# Altium footprint library HC49US-10P244MHZ-16PF-30-EXT-SMD-H32-TR.PcbLib: 3 footprints
Each footprint in its own frame and in the unit in brackets; x right, y up, seen from the top. Pads: shape width x height; smd on the part's side, far side on the other; paste and mask are expansions set on the pad; w line width, h text height; cw(c..) or ccw(c..) is an arc to the next point about the centre after c.
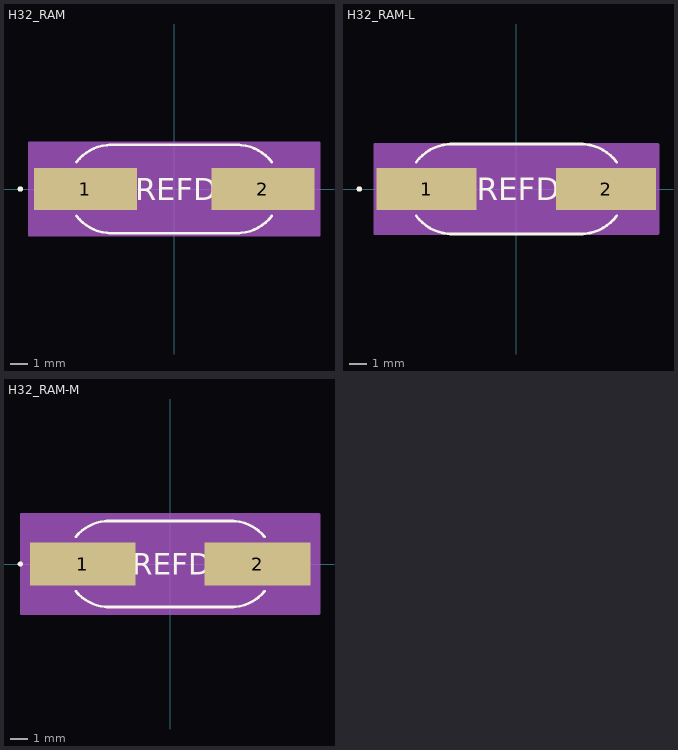
[diagram p0: the footprints below, top view; thin cyan lines are the x and y axes]

## H32_RAM [mm]
pads (2):
  rect 5.912x2.432 smd paste+0 mask+0: 1(-5.088,0) 2(5.088,0)
Top Overlay:
  circle w0.152: c-8.814,0 r0.076
  lines w0.152: -5.591,-1.549 ccw(c-3.594,0) -3.594,-2.527 ; -5.591,1.549 cw(c-3.594,0) -3.594,2.527 ; -3.721,-2.527 3.721,-2.527 ; -3.721,2.527 3.721,2.527 ; 3.594,-2.527 ccw(c3.594,0) 5.591,-1.549 ; 3.594,2.527 cw(c3.594,0) 5.591,1.549
  text "REFDES" at -2.222,-0.635 h1.27
Mechanical 13:
  circle w0: c-7.417,0 r0.076
  lines w0: -3.594,-2.4 cw(c-3.594,0) -3.594,2.4 ; -3.594,-1.892 cw(c-3.594,0) -3.594,1.892 ; 3.594,-2.4 ccw(c3.594,0) 3.594,2.4 ; 3.594,-1.892 ccw(c3.594,0) 3.594,1.892
  lines w0.025: -3.594,-2.4 3.594,-2.4 ; -3.594,-1.892 3.594,-1.892 ; -3.594,1.892 3.594,1.892 ; -3.594,2.4 3.594,2.4
  text "RefDes2" at -2.222,-0.635 h1.27
Mechanical 15:
  region: 8.298,-2.654 -8.298,-2.654 -8.298,2.654 8.298,2.654
  lines w0.152: -8.298,-2.654 -8.298,2.654 8.298,2.654 8.298,-2.654 -8.298,-2.654
3D body "H32_RAM.step": height 3.25, standoff 0, extent -7.544,-2.4 7.544,2.4

## H32_RAM-L [mm]
pads (2):
  rect 5.612x2.332 smd paste+0 mask+0: 1(-5.038,0) 2(5.038,0)
Top Overlay:
  circle w0.152: c-8.814,0 r0.076
  lines w0.152: -5.629,-1.499 ccw(c-3.594,0) -3.594,-2.527 ; -5.629,1.499 cw(c-3.594,0) -3.594,2.527 ; -3.721,-2.527 3.721,-2.527 ; -3.721,2.527 3.721,2.527 ; 3.594,-2.527 ccw(c3.594,0) 5.629,-1.499 ; 3.594,2.527 cw(c3.594,0) 5.629,1.499
  text "REFDES" at -2.222,-0.635 h1.27
Mechanical 13:
  circle w0: c-7.417,0 r0.076
  lines w0: -3.594,-2.4 cw(c-3.594,0) -3.594,2.4 ; -3.594,-1.892 cw(c-3.594,0) -3.594,1.892 ; 3.594,-2.4 ccw(c3.594,0) 3.594,2.4 ; 3.594,-1.892 ccw(c3.594,0) 3.594,1.892
  lines w0.025: -3.594,-2.4 3.594,-2.4 ; -3.594,-1.892 3.594,-1.892 ; -3.594,1.892 3.594,1.892 ; -3.594,2.4 3.594,2.4
  text "RefDes2" at -2.222,-0.635 h1.27
Mechanical 15:
  region: 7.945,-2.502 -7.945,-2.502 -7.945,2.502 7.945,2.502
  lines w0.152: -7.945,-2.502 -7.945,2.502 7.945,2.502 7.945,-2.502 -7.945,-2.502
3D body "H32_RAM.step": height 3.25, standoff 0, extent -7.544,-2.4 7.544,2.4

## H32_RAM-M [mm]
pads (2):
  rect 6.212x2.532 smd paste+0 mask+0: 1(-5.138,0) 2(5.138,0)
Top Overlay:
  circle w0.152: c-8.814,0 r0.076
  lines w0.152: -5.551,-1.599 ccw(c-3.594,0) -3.594,-2.527 ; -5.551,1.599 cw(c-3.594,0) -3.594,2.527 ; -3.721,-2.527 3.721,-2.527 ; -3.721,2.527 3.721,2.527 ; 3.594,-2.527 ccw(c3.594,0) 5.551,-1.599 ; 3.594,2.527 cw(c3.594,0) 5.551,1.599
  text "REFDES" at -2.222,-0.635 h1.27
Mechanical 13:
  circle w0: c-7.417,0 r0.076
  lines w0: -3.594,-2.4 cw(c-3.594,0) -3.594,2.4 ; -3.594,-1.892 cw(c-3.594,0) -3.594,1.892 ; 3.594,-2.4 ccw(c3.594,0) 3.594,2.4 ; 3.594,-1.892 ccw(c3.594,0) 3.594,1.892
  lines w0.025: -3.594,-2.4 3.594,-2.4 ; -3.594,-1.892 3.594,-1.892 ; -3.594,1.892 3.594,1.892 ; -3.594,2.4 3.594,2.4
  text "RefDes2" at -2.222,-0.635 h1.27
Mechanical 15:
  region: 8.752,-2.908 -8.752,-2.908 -8.752,2.908 8.752,2.908
  lines w0.152: -8.752,-2.908 -8.752,2.908 8.752,2.908 8.752,-2.908 -8.752,-2.908
3D body "H32_RAM.step": height 3.25, standoff 0, extent -7.544,-2.4 7.544,2.4